# Altium footprint library PcbLib1.PcbLib: 2 footprints
Each footprint in its own frame and in the unit in brackets; x right, y up, seen from the top. Pads: shape width x height; smd on the part's side, far side on the other; paste and mask are expansions set on the pad; w line width, h text height; cw(c..) or ccw(c..) is an arc to the next point about the centre after c.
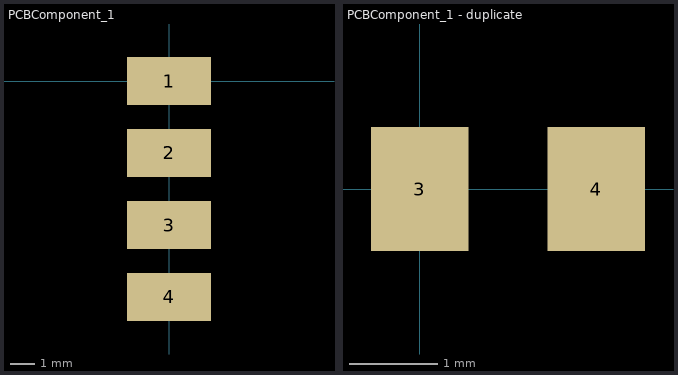
[diagram p0: the footprints below, top view; thin cyan lines are the x and y axes]

## PCBComponent_1 [mm]
pads (4):
  rect 3.5x2 smd: 1(0,0) 2(0,-3) 3(0,-6) 4(0,-9)

## PCBComponent_1 - duplicate [mm]
pads (2):
  rect 1.1x1.4 smd: 3(0,0) 4(2,0)